# Altium footprint library Common Mode Choke 1812.PcbLib: 1 footprints
Each footprint in its own frame and in the unit in brackets; x right, y up, seen from the top. Pads: shape width x height; smd on the part's side, far side on the other; paste and mask are expansions set on the pad; w line width, h text height; cw(c..) or ccw(c..) is an arc to the next point about the centre after c.
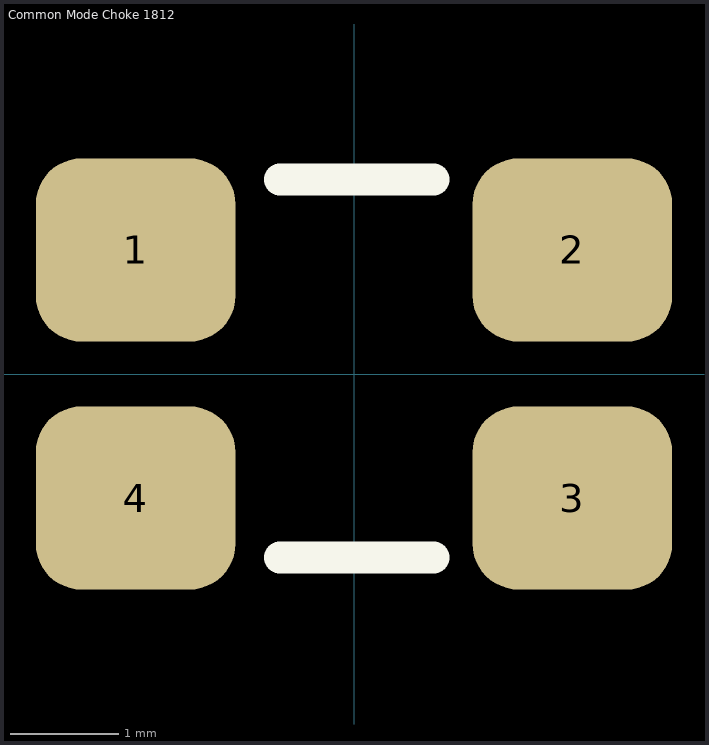
[diagram p0: the footprint, top view; thin cyan lines are the x and y axes]

## Common Mode Choke 1812 [mm] "Data and signal line chokes"
height 3
pads (4):
  rrect50% 1.85x1.7 smd: 1(-2.025,1.15) 2(2.025,1.15) 3(2.025,-1.15) 4(-2.025,-1.15)
Top Overlay:
  lines w0.3: -0.686,-1.702 0.737,-1.702 ; -0.686,1.803 0.737,1.803
3D body "69752.stp": height 2.8, standoff 0, extent -2.265,-1.549 2.235,1.651